# Altium footprint library DD.PcbLib: 1 footprints
Each footprint in its own frame and in the unit in brackets; x right, y up, seen from the top. Pads: shape width x height; smd on the part's side, far side on the other; paste and mask are expansions set on the pad; w line width, h text height; cw(c..) or ccw(c..) is an arc to the next point about the centre after c.
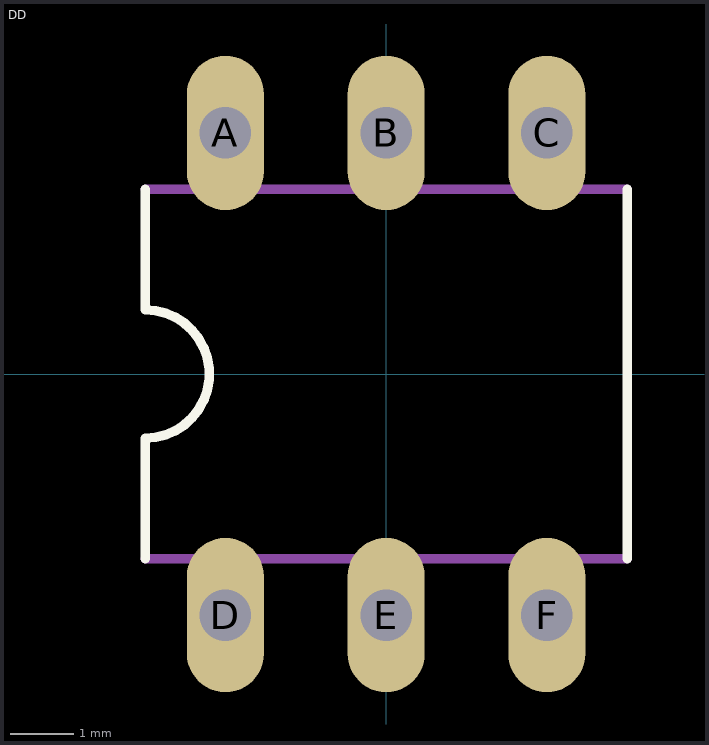
[diagram p0: the footprint, top view; thin cyan lines are the x and y axes]

## DD [mil]
pads (6):
  oval 48x96 hole 32: A(-100,150) B(0,150) C(100,150) D(-100,-150) E(0,-150) F(100,-150)
Top Overlay:
  lines w6: -150,-115 -150,-40 ccw(c-150,0) -150,40 -150,115 ; 150,-115 150,115
Mechanical 2:
  text "dd" at 15,40 h77.5
Mechanical 4:
Mechanical 16:
  lines w6: -150,-115 150,-115 ; -150,115 150,115